# Altium footprint library Transformator.PcbLib: 12 footprints
Each footprint in its own frame and in the unit in brackets; x right, y up, seen from the top. Pads: shape width x height; smd on the part's side, far side on the other; paste and mask are expansions set on the pad; w line width, h text height; cw(c..) or ccw(c..) is an arc to the next point about the centre after c.
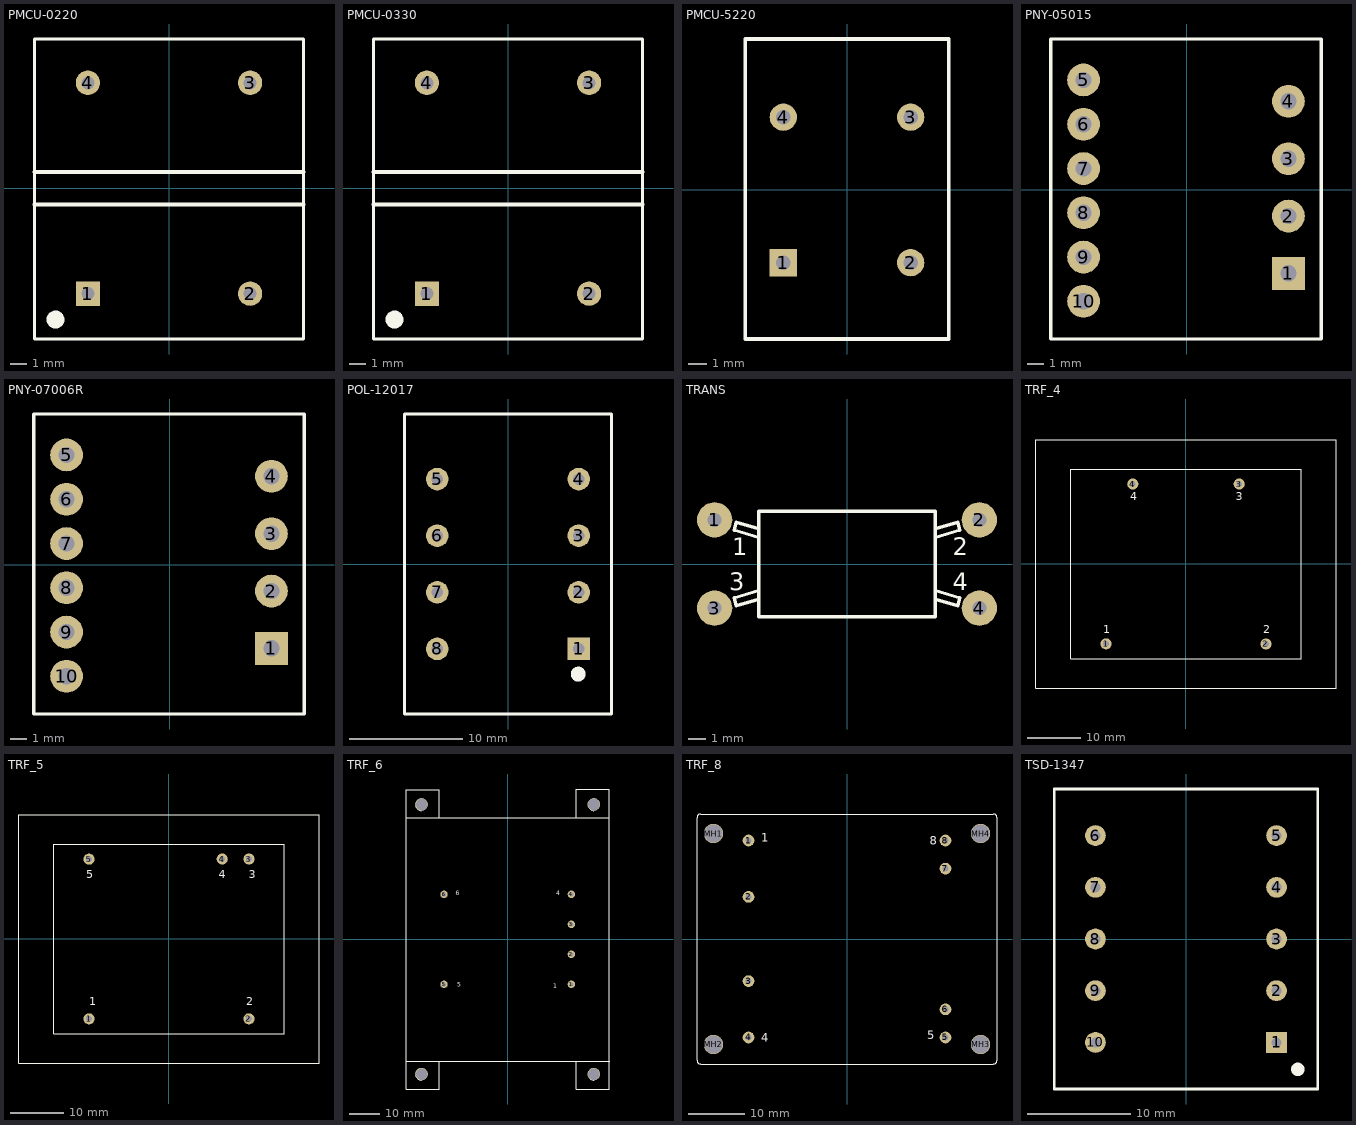
[diagram p0: the footprints below, top view; thin cyan lines are the x and y axes]

## PMCU-0220 [mm]
height 21
pads (4):
  rect 1.5x1.5 hole 0.8: 1(-5,-6.5)
  round 1.5 hole 0.8: 2(5,-6.5) 3(5,6.5) 4(-5,6.5)
Top Overlay:
  circle w0.7: c-7,-8.1 r0.2
  lines w0.2: -8.3,-9.3 -8.3,9.2 8.3,9.2 8.3,-9.3 -8.3,-9.3
  lines w0.254: -8.3,-1 8.3,-1 ; -8.3,1 8.3,1

## PMCU-0330 [mm]
height 21
pads (4):
  rect 1.5x1.5 hole 0.8: 1(-5,-6.5)
  round 1.5 hole 0.8: 2(5,-6.5) 3(5,6.5) 4(-5,6.5)
Top Overlay:
  circle w0.7: c-7,-8.1 r0.2
  lines w0.2: -8.3,-9.3 -8.3,9.2 8.3,9.2 8.3,-9.3 -8.3,-9.3
  lines w0.254: -8.3,-1 8.3,-1 ; -8.3,1 8.3,1

## PMCU-5220 [mm]
pads (4):
  rect 1.5x1.5 hole 0.8: 1(-3.5,-4)
  round 1.5 hole 0.8: 2(3.5,-4) 3(3.5,4) 4(-3.5,4)
Top Overlay:
  lines w0.2: -5.6,-8.2 5.6,-8.2 5.6,8.3 -5.6,8.3 -5.6,-8.2
3D body: height 15.45, standoff -3, extent -5.425,-7.782 5.425,7.781

## PNY-05015 [mm]
pads (10):
  rect 2x2 hole 1: 1(6.2,-5.1)
  round 2 hole 1: 2(6.2,-1.6) 3(6.2,1.9) 4(6.2,5.4) 5(-6.3,6.7) 6(-6.3,4) 7(-6.3,1.3) 8(-6.3,-1.4) 9(-6.3,-4.1) 10(-6.3,-6.8)
Top Overlay:
  lines w0.2: -8.3,-9.1 -8.3,9.2 8.2,9.2 8.2,-9.1 -8.3,-9.1
3D body: height 6, standoff 0, extent -8.3,-9.1 8.2,9.2
3D body: height 18, standoff 0.1, extent -3,-9.25 3,9.25
3D body: height 15, standoff 0.1, extent 0,-5.258 5.51,5.758
3D body: height 15, standoff 0.1, extent -5.51,-5.258 0,5.758
3D body: height 16, standoff 15, extent 0,-6.262 6.258,0
3D body: height 16, standoff 15, extent 0,0 6.262,6.258
3D body: height 16, standoff 15, extent -6.258,0 0,6.262
3D body: height 16, standoff 15, extent -6.262,-6.258 0,0
3D body: height 0, standoff -4.5, extent 5.902,-5.399 6.5,-4.801
3D body: height 0, standoff -4.5, extent 5.902,-1.899 6.5,-1.301
3D body: height 0, standoff -4.5, extent 5.902,1.601 6.5,2.199
3D body: height 0, standoff -4.5, extent 5.902,5.101 6.5,5.699
3D body: height 0, standoff -4.5, extent -6.598,6.401 -6,6.999
3D body: height 0, standoff -4.5, extent -6.598,3.701 -6,4.299
3D body: height 0, standoff -4.5, extent -6.598,1.001 -6,1.599
3D body: height 0, standoff -4.5, extent -6.598,-1.699 -6,-1.101
3D body: height 0, standoff -4.5, extent -6.598,-4.399 -6,-3.801
3D body: height 0, standoff -4.5, extent -6.598,-7.099 -6,-6.501

## PNY-07006R [mm]
pads (10):
  rect 2x2 hole 1: 1(6.2,-5.1)
  round 2 hole 1: 2(6.2,-1.6) 3(6.2,1.9) 4(6.2,5.4) 5(-6.3,6.7) 6(-6.3,4) 7(-6.3,1.3) 8(-6.3,-1.4) 9(-6.3,-4.1) 10(-6.3,-6.8)
Top Overlay:
  lines w0.2: -8.3,-9.1 8.2,-9.1 8.2,9.2 -8.3,9.2 -8.3,-9.1
3D body: height 0, standoff -4.5, extent -6.598,-7.099 -6,-6.501
3D body: height 0, standoff -4.5, extent -6.598,-4.399 -6,-3.801
3D body: height 0, standoff -4.5, extent -6.598,-1.699 -6,-1.101
3D body: height 0, standoff -4.5, extent -6.598,1.001 -6,1.599
3D body: height 0, standoff -4.5, extent -6.598,3.701 -6,4.299
3D body: height 0, standoff -4.5, extent -6.598,6.401 -6,6.999
3D body: height 0, standoff -4.5, extent 5.902,5.101 6.5,5.699
3D body: height 0, standoff -4.5, extent 5.902,1.601 6.5,2.199
3D body: height 0, standoff -4.5, extent 5.902,-1.899 6.5,-1.301
3D body: height 0, standoff -4.5, extent 5.902,-5.399 6.5,-4.801
3D body: height 16, standoff 15, extent -6.262,-6.258 0,0
3D body: height 16, standoff 15, extent -6.258,0 0,6.262
3D body: height 16, standoff 15, extent 0,0 6.262,6.258
3D body: height 16, standoff 15, extent 0,-6.262 6.258,0
3D body: height 15, standoff 0.1, extent -5.51,-5.258 0,5.758
3D body: height 15, standoff 0.1, extent 0,-5.258 5.51,5.758
3D body: height 18, standoff 0.1, extent -3,-9.25 3,9.25
3D body: height 6, standoff 0, extent -8.3,-9.1 8.2,9.2

## POL-12017 [mm]
height 22.5
pads (8):
  rect 2x2 hole 1: 1(6.25,-7.5)
  round 2 hole 1: 2(6.25,-2.5) 3(6.25,2.5) 4(6.25,7.5) 5(-6.25,7.5) 6(-6.25,2.5) 7(-6.25,-2.5) 8(-6.25,-7.5)
Top Overlay:
  circle w0.7: c6.2,-9.725 r0.3
  lines w0.254: -9.15,-13.25 -9.15,13.25 9.15,13.25 9.15,-13.25 -9.15,-13.25
3D body: height 22.5, standoff 0, extent -4,-13.25 4,13.225
3D body: height 20, standoff 0, extent -9.075,-8.625 9.2,8.25
3D body: height 7, standoff 0, extent -9.15,-13.25 9.15,13.25

## TRANS [mm] "Transformer; 4 Leads"
pads (4):
  round 2 hole 0.8: 1(-7.5,2.5) 2(7.5,2.5) 3(-7.5,-2.5) 4(7.5,-2.5)
Top Overlay:
  lines w0.2: -5,-2 -6.275,-2.375 -6.4,-1.925 -5,-1.5 ; -5,1.5 -6.4,1.925 -6.275,2.375 -5,2 ; 5,-2 6.275,-2.375 6.4,-1.925 5,-1.5 ; 5,1.5 6.4,1.925 6.275,2.375 5,2 ; -5,-3 -5,3 5,3 5,-3 -5,-3
  text "4" at 6,-1.5 h1
  text "3" at -6.675,-1.5 h1
  text "2" at 6,0.5 h1
  text "1" at -6.5,0.5 h1

## TRF_4 [mil] "Transformer; 4 Leads"
pads (4):
  round 82 hole 42: 1(-590.83,-590) 2(590.83,-590.83) 3(393.33,590.83) 4(-393.33,590.83)
Top Overlay:
  lines w8: -1108.33,-916.67 -1108.33,916.67 1108.33,916.67 1108.33,-916.67 -1108.33,-916.67 ; -850,-700 850,-700 850,700 -850,700 -850,-700
  text "3" at 369.17,470 h59.06
  text "4" at -410.83,470 h59.06
  text "2" at 569.17,-510 h59.06
  text "1" at -610.83,-510 h59.06

## TRF_5 [mil] "Transformer; 5 Leads"
pads (5):
  round 82 hole 42: 1(-590.83,-590.42) 2(590.83,-590.42) 3(590.83,590.42) 4(393.33,590.42) 5(-590.83,589.58)
Top Overlay:
  lines w8: -1108.33,-917.08 -1108.33,916.25 1108.33,916.25 1108.33,-917.08 -1108.33,-917.08 ; -850,-700.42 850,-700.42 850,699.58 -850,699.58 -850,-700.42
  text "5" at -610.83,449.58 h59.06
  text "1" at -590.83,-490.42 h59.06
  text "4" at 369.17,449.58 h59.06
  text "3" at 589.17,449.58 h59.06
  text "2" at 569.17,-490.42 h59.06

## TRF_6 [mil] "Transformer; 6 Leads"
pads (10):
  round 98 hole 52: 1(836.67,-590.83) 2(836.67,-196.67) 3(836.67,196.67) 4(836.67,590.83) 5(-836.67,-590.83) 6(-836.67,590.83)
  round 165 hole 152: MH1(-1131.67,-1771.67) MH2(1131.67,-1771.67) MH3(1131.67,1771.67) MH4(-1131.67,1771.67)
Top Overlay:
  lines w8: -1333.33,-1600 1341.67,-1600 ; -1333.33,1600 1333.33,1600 ; -1133.33,-1850 cw(c-1133.33,-1775) -1133.33,-1700 ; -1133.33,1691.67 cw(c-1133.33,1766.67) -1133.33,1841.67 ; -900,-1600 -900,-1966.67 -1333.33,-1966.67 -1333.33,1966.67 -900,1966.67 -900,1600 ; 900,-1600 900,-1966.67 1333.33,-1966.67 1333.33,1966.67 ; 900,1600 900,1975 1333.33,1975 ; 1133.33,-1850 cw(c1133.33,-1775) 1133.33,-1700 ; 1133.33,1691.67 cw(c1133.33,1766.67) 1133.33,1841.67
  text "6" at -680,580 h59.06
  text "4" at 640,580 h59.06
  text "1" at 600,-640 h59.06
  text "5" at -660,-620 h59.06

## TRF_8 [mil] "Transformer; 8 Leads"
pads (12):
  round 82 hole 42: 1(-689.17,689.17) 2(-689.17,295) 3(-689.17,-295) 4(-689.17,-689.17) 5(689.17,-689.17) 6(689.17,-492.5) 7(689.17,492.5) 8(689.17,689.17)
  round 135 hole 125: MH1(-935,738.33) MH2(-935,-738.33) MH3(935,-738.33) MH4(935,738.33)
Top Overlay:
  lines w8: -1050,-850 ccw(c-1025,-850) -1025,-875 1025,-875 ccw(c1025,-850) 1050,-850 1050,850 ccw(c1025,850) 1025,875 -1025,875 ccw(c-1025,850) -1050,850 -1050,-850
  text "1" at -600,680 h59.06
  text "5" at 560,-700 h59.06
  text "8" at 580,660 h59.06
  text "4" at -600,-720 h59.06

## TSD-1347 [mm]
height 24.2
pads (10):
  rect 2x2 hole 1: 1(8.75,-10)
  round 2 hole 1: 2(8.75,-5) 3(8.75,0) 4(8.75,5) 5(8.75,10) 6(-8.75,10) 7(-8.75,5) 8(-8.75,0) 9(-8.75,-5) 10(-8.75,-10)
Top Overlay:
  circle w0.7: c10.8,-12.6 r0.3
  lines w0.254: -12.75,-14.5 12.75,-14.5 12.75,14.5 -12.75,14.5 -12.75,-14.5
3D body: height 9, standoff 0, extent -12.775,-14.5 12.775,14.475
3D body: height 21, standoff 0, extent -12.725,-8.425 12.65,8.5
3D body: height 23, standoff 0, extent -5.75,-14.525 5.825,14.45